# Altium integrated library ERA3ARB103V.IntLib: 1 symbol
Pins are listed as number, name and electrical type; pins without a type are passive.

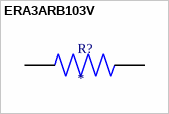
[diagram p0: symbol ERA3ARB103V]

## ERA3ARB103V
designator R?
MP: ERA3ARB103V; Availability: Unavailable; Package: None; Value: *; Price: None
footprint RES_ERA3ARB103V
pins: 1, 2